# EAGLE library part 2N7002PV,115 (library NXP_By_element14_Batch_1)
60 V, 350 mA N-channel Trench MOSFET
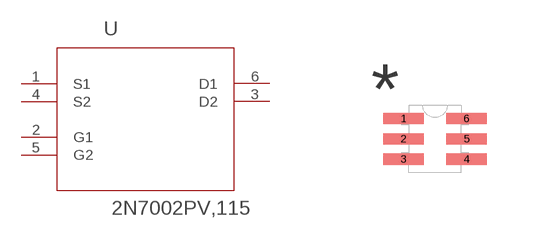
[diagram p0: symbol with the pads of SOT50P160X60-6N; footprint SOT50P160X60-6N]

Designator prefix U

## 2N7002PV,115 (MPN: 2N7002PV,115; OC_FARNELL: -; OC_NEWARK: 56T4764; PACKAGE: SOT-666-6; SUPPLIER: NXP Semiconductors)  [SOT50P160X60-6N]
1  S1  pas
2  G1  pas
3  D2  pas
4  S2  pas
5  G2  pas
6  D1  pas

## Footprint SOT50P160X60-6N (pad centres in mm)
smd 1.016 x 0.279: 1 -0.787,0.508; 2 -0.787,0; 3 -0.787,-0.508; 4 0.787,-0.508; 5 0.787,0; 6 0.787,0.508